# Altium schematic symbol library Resistor_0805.SchLib: 259 symbols (part 1 of 6)
Pins are listed as number, name and electrical type; pins without a type are passive.

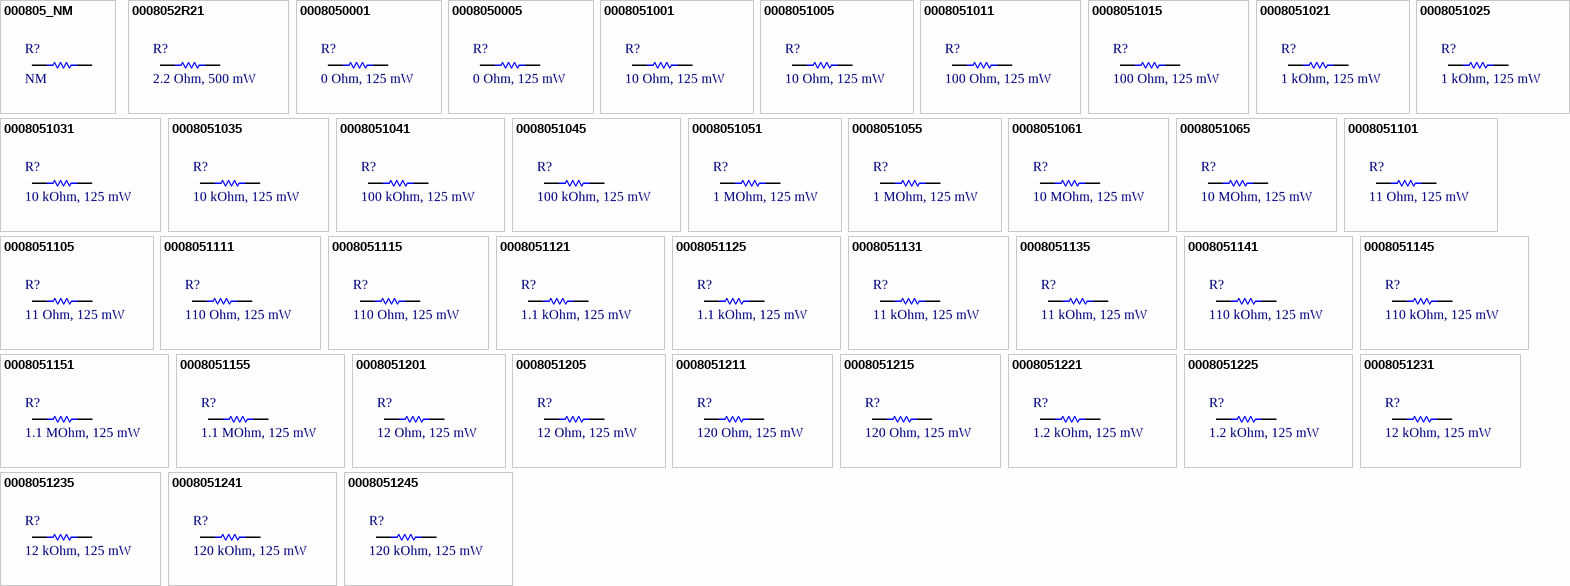
[diagram p0: symbols 000805_NM to 0008051245]

## 000805_NM
designator R?, comment NM
RES, size 0805, NM, N/A; Rated Power: N/A; Resistance: N/A; Supplier 1 URL: N/A; Supplier 2 URL: N/A; Supplier 3 URL: N/A; Value: NM; Packaging: Tape and Reel; Supplier 1: Mouser; Supplier 1 Part Number: N/A; Supplier 2: Digi-Key; Supplier 2 Part Number: N/A; Supplier 3: thegioiic; Supplier 3 Part Number: OEM; Tolerance: N/A; Manufacturer: N/A; Manufacturer Part Number: N/A; ComponentLink1Description: Datasheet; ComponentLink1URL: N/A; Mount: SMD/SMT; Operating Temperature Max: + 85 C; Operating Temperature Min: - 40 C; Package / Case: 0805; LCSC Part #: N/A
footprint RES_0805 (Chip Resistor, 2-Leads, Body 2.05x1.25mm, IPC Medium Density)
pins: 1, 2

## 0008052R21
designator R?, comment 2.2 Ohm, 500 mW
RES, size 0805, 2.2 Ohm, 500mW, 1%; Manufacturer: VISHAY; Manufacturer Part Number: CRCW08052R20FKEAHP; Resistance: 2.2 Ohm; Value: 2.2 Ohm; Tolerance: +/-1%; Rated Power: 500 mW; Supplier 1 URL: https://www.mouser.vn/en/ProductDetail/Vishay/CRCW08052R20FKEAHP?qs=40TFAHZMFvc8altFjF5kRw%3D%3D; Supplier 2 URL: https://www.digikey.com/en/products/detail/vishay-dale/crcw08052r20fkeahp/2226670; Supplier 3 URL: N/A; Packaging: Tape and Reel; Supplier 1: Mouser; Supplier 1 Part Number: 71-CRCW08052R20FKEAH; Supplier 2: Digi-Key; Supplier 2 Part Number: 541-2.20TTR-ND; Supplier 3: thegioiic; Supplier 3 Part Number: N/A; ComponentLink1Description: Datasheet; ComponentLink1URL: https://www.lcsc.com/datasheet/C2078808.pdf?spm=wm.sxq.inf.ggs___wm.fly.bg.4.xh&lcsc_vid=FQMKBABWTgUIBQJQFFEMBgBUFFIPVlNeFQReAQVWFFgxVlNeQlJfUFNSQ1JeUzsOAxUeFF5JWBYZEEoKFBINSQcJGk4NBhADEA4cHktXRlVcSQwSGg0%3D; Mount: SMD/SMT; Operating Temperature Max: + 85 C; Operating Temperature Min: - 40 C; Package / Case: 0805; LCSC Part #: C2078808
footprint RES_0805 (Chip Resistor, 2-Leads, Body 2.05x1.25mm, IPC Medium Density)
simulation model R_Resistor_Default (Model Description)
signal-integrity model Resistor Model
pins: 1, 2

## 0008050001
designator R?, comment 0 Ohm, 125 mW
RES, size 0805, 0 Ohm, 1/8 W, 1%; Manufacturer: YAGEO; Manufacturer Part Number: RC0805FR-070RL; Rated Power: 125 mW; Resistance: 0 Ohm; Value: 0 Ohm; Tolerance: +/-1%; Supplier 1 URL: https://www.mouser.com/ProductDetail/YAGEO/RC0805FR-070RL?qs=fRxXYNj8ftF6kXqh1XbZJQ%3D%3D; Supplier 2 URL: https://www.digikey.com/en/products/detail/yageo/rc0805fr-070rl/2827620; Supplier 3 URL: https://www.thegioiic.com/dien-tro-0-ohm-0805-1-; Packaging: Tape and Reel; Supplier 1: Mouser; Supplier 1 Part Number: 603-RC0805FR-070RL; Supplier 2: Digi-Key; Supplier 2 Part Number: 311-0.0CRTR-ND; Supplier 3: thegioiic; Supplier 3 Part Number: OEM; ComponentLink1Description: Datasheet; ComponentLink1URL: N/A; Mount: SMD/SMT; Operating Temperature Max: + 85 C; Operating Temperature Min: - 40 C; Package / Case: 0805; LCSC Part #: C100045
footprint RES_0805 (Chip Resistor, 2-Leads, Body 2.05x1.25mm, IPC Medium Density)
simulation model R_Resistor_Default (Model Description)
signal-integrity model Resistor Model
pins: 1, 2

## 0008050005
designator R?, comment 0 Ohm, 125 mW
RES, size 0805, 0 Ohm, 1/8 W, 5%; Manufacturer: YAGEO; Manufacturer Part Number: RC0805JR-070RL; Rated Power: 125 mW; Resistance: 0 Ohm; Value: 0 Ohm; Tolerance: +/-5%; Supplier 1 URL: https://www.mouser.com/ProductDetail/YAGEO/RC0805JR-070RL?qs=3ldFlDWnkKyEhdaPjQHEFA%3D%3D; Supplier 2 URL: https://www.digikey.com/en/products/detail/yageo/rc0805jr-070rl/728216; Supplier 3 URL: https://www.thegioiic.com/dien-tro-0-ohm-0805-5-; Packaging: Tape and Reel; Supplier 1: Mouser; Supplier 1 Part Number: 603-RC0805JR-070RL; Supplier 2: Digi-Key; Supplier 2 Part Number: 311-0.0ARTR-ND; Supplier 3: thegioiic; Supplier 3 Part Number: OEM; ComponentLink1Description: Datasheet; ComponentLink1URL: https://www.mouser.com/datasheet/2/447/PYu_AR_51_RoHS_L_7-3003081.pdf; Mount: SMD/SMT; Operating Temperature Max: + 85 C; Operating Temperature Min: - 40 C; Package / Case: 0805; LCSC Part #: N/A
footprint RES_0805 (Chip Resistor, 2-Leads, Body 2.05x1.25mm, IPC Medium Density)
simulation model R_Resistor_Default (Model Description)
signal-integrity model Resistor Model
pins: 1, 2

## 0008051001
designator R?, comment 10 Ohm, 125 mW
RES, size 0805, 10 Ohm, 1/8 W, 1%; Manufacturer: Vishay Dale Thin Film; Manufacturer Part Number: M55342H06B10D0RT5; Rated Power: 125 mW; Resistance: 10 Ohm; Value: 10 Ohm; Tolerance: +/-1%; Supplier 1 URL: https://www.mouser.vn/ProductDetail/Vishay-Dale/CRCW080510R0FKEAHP?qs=sGAEpiMZZMtlubZbdhIBIB2QTI7Ai3Wq221SUXRDybo%3D; Supplier 2 URL: https://www.digikey.com/en/products/detail/vishay-dale-thin-film/M55342H06B10D0RT5/3580812; Supplier 3 URL: https://www.thegioiic.com/dien-tro-10-ohm-0805-1-; Packaging: Tape and Reel; Supplier 1: Mouser; Supplier 1 Part Number: 71-CRCW080510R0FKEAH; Supplier 2: Digi-Key; Supplier 2 Part Number: 764-M55342H06B10D0RT5TR-ND; Supplier 3: thegioiic; Supplier 3 Part Number: OEM; ComponentLink1Description: Datasheet; ComponentLink1URL: https://www.vishay.com/docs/60018/eh.pdf; Mount: SMD/SMT; Operating Temperature Max: + 85 C; Operating Temperature Min: - 40 C; Package / Case: 0805; LCSC Part #: C96347
footprint RES_0805 (Chip Resistor, 2-Leads, Body 2.05x1.25mm, IPC Medium Density)
simulation model R_Resistor_Default (Model Description)
signal-integrity model Resistor Model
pins: 1, 2

## 0008051005
designator R?, comment 10 Ohm, 125 mW
RES, size 0805, 10 Ohm, 1/8 W, 5%; Manufacturer: TE Connectivity Passive Product; Manufacturer Part Number: CRGCQ0805J10R; Rated Power: 125 mW; Resistance: 10 Ohm; Value: 10 Ohm; Tolerance: +/-5%; Supplier 1 URL: https://www.mouser.vn/ProductDetail/Vishay-Dale/CRCW080510R0JNEB?qs=LOX6nxTstiYdzgklIYN6GQ%3D%3D; Supplier 2 URL: https://www.digikey.com/en/products/detail/vishay-dale-thin-film/M55342H06B10D0RT5/3580812; Supplier 3 URL: https://www.thegioiic.com/dien-tro-10-ohm-0805-5-; Packaging: Tape and Reel; Supplier 1: Mouser; Supplier 1 Part Number: 71-CRCW080510R0JNEB; Supplier 2: Digi-Key; Supplier 2 Part Number: A130122TR-ND; Supplier 3: thegioiic; Supplier 3 Part Number: OEM; ComponentLink1Description: Datasheet; ComponentLink1URL: https://www.te.com/usa-en/product-2176342-7.datasheet.pdf; Mount: SMD/SMT; Operating Temperature Max: + 85 C; Operating Temperature Min: - 40 C; Package / Case: 0805; LCSC Part #: N/A
footprint RES_0805 (Chip Resistor, 2-Leads, Body 2.05x1.25mm, IPC Medium Density)
simulation model R_Resistor_Default (Model Description)
signal-integrity model Resistor Model
pins: 1, 2

## 0008051011
designator R?, comment 100 Ohm, 125 mW
RES, size 0805, 100 Ohm, 1/8 W, 1%; Manufacturer: YAGEO; Manufacturer Part Number: AC0805FR-07100RL; Rated Power: 125 mW; Resistance: 100 Ohm; Value: 100 Ohm; Tolerance: +/-1%; Supplier 1 URL: https://www.mouser.com/ProductDetail/YAGEO/AC0805FR-07100RL?qs=yhV1fb9g%2FKZPmqCrZLI1lw%3D%3D; Supplier 2 URL: https://www.digikey.com/en/products/detail/yageo/ac0805fr-07100rl/5896521; Supplier 3 URL: https://www.thegioiic.com/dien-tro-100-ohm-0805-1-; Packaging: Tape and Reel; Supplier 1: Mouser; Supplier 1 Part Number: 603-AC0805FR-07100RL; Supplier 2: Digi-Key; Supplier 2 Part Number: YAG3689TR-ND; Supplier 3: thegioiic; Supplier 3 Part Number: OEM; ComponentLink1Description: Datasheet; ComponentLink1URL: https://www.yageo.com/upload/media/product/productsearch/datasheet/rchip/PYu-AC_51_RoHS_L_11.pdf; Mount: SMD/SMT; Operating Temperature Max: + 85 C; Operating Temperature Min: - 40 C; Package / Case: 0805; LCSC Part #: C138274
footprint RES_0805 (Chip Resistor, 2-Leads, Body 2.05x1.25mm, IPC Medium Density)
simulation model R_Resistor_Default (Model Description)
signal-integrity model Resistor Model
pins: 1, 2

## 0008051015
designator R?, comment 100 Ohm, 125 mW
RES, size 0805, 100 Ohm, 1/8 W, 5%; Manufacturer: YAGEO; Manufacturer Part Number: RC0805JR-07100RL; Rated Power: 125 mW; Resistance: 100 Ohm; Value: 100 Ohm; Tolerance: +/-5%; Supplier 1 URL: https://www.mouser.com/ProductDetail/YAGEO/RC0805JR-07100RL?qs=KyGMWp10UktK72I3hB%252BlJQ%3D%3D; Supplier 2 URL: https://www.digikey.com/en/products/detail/yageo/rc0805jr-07100rl/728238; Supplier 3 URL: https://www.thegioiic.com/dien-tro-100-ohm-0805-5; Packaging: Tape and Reel; Supplier 1: Mouser; Supplier 1 Part Number: 603-RC0805JR-07100RL; Supplier 2: Digi-Key; Supplier 2 Part Number: 311-100ARTR-ND; Supplier 3: thegioiic; Supplier 3 Part Number: OEM; ComponentLink1Description: Datasheet; ComponentLink1URL: https://www.vishay.com/docs/28773/crcwce3.pdf; Mount: SMD/SMT; Operating Temperature Max: + 85 C; Operating Temperature Min: - 40 C; Package / Case: 0805; LCSC Part #: C106949
footprint RES_0805 (Chip Resistor, 2-Leads, Body 2.05x1.25mm, IPC Medium Density)
simulation model R_Resistor_Default (Model Description)
signal-integrity model Resistor Model
pins: 1, 2

## 0008051021
designator R?, comment 1 kOhm, 125 mW
RES, size 0805, 1 kOhm, 1/8 W, 1%; Manufacturer: Vishay Dale; Manufacturer Part Number: M55342K06B1E00RS3; Rated Power: 125 mW; Resistance: 1 kOhm; Value: 1 kOhm; Tolerance: +/-1%; Supplier 1 URL: N/A; Supplier 2 URL: https://www.digikey.com/en/products/detail/vishay-dale/M55342K06B1E00RS3/2941798; Supplier 3 URL: https://www.thegioiic.com/dien-tro-1-kohm-0805-1; Packaging: Tape and Reel; Supplier 1: Mouser; Supplier 1 Part Number: N/A; Supplier 2: Digi-Key; Supplier 2 Part Number: 1135-1001-2-ND; Supplier 3: thegioiic; Supplier 3 Part Number: OEM; ComponentLink1Description: Datasheet; ComponentLink1URL: https://www.vishay.com/docs/31010/rcwpm.pdf; Mount: SMD/SMT; Operating Temperature Max: + 85 C; Operating Temperature Min: - 40 C; Package / Case: 0805; LCSC Part #: N/A
footprint RES_0805 (Chip Resistor, 2-Leads, Body 2.05x1.25mm, IPC Medium Density)
simulation model R_Resistor_Default (Model Description)
signal-integrity model Resistor Model
pins: 1, 2

## 0008051025
designator R?, comment 1 kOhm, 125 mW
RES, size 0805, 1 kOhm, 1/8 W, 5%; Manufacturer: Vishay Dale; Manufacturer Part Number: CRCW08051K00JNEAC; Rated Power: 125 mW; Resistance: 1 kOhm; Value: 1 kOhm; Tolerance: +/-5%; Supplier 1 URL: https://www.mouser.vn/ProductDetail/Vishay-Dale/CRCW08051K00JNEC?qs=OW6ROCK%252BaiZqKFsNe9zjFw%3D%3D; Supplier 2 URL: https://www.digikey.com/en/products/detail/vishay-dale/CRCW08051K00JNEAC/7928584; Supplier 3 URL: https://www.thegioiic.com/dien-tro-1-kohm-0805-5-; Packaging: Tape and Reel; Supplier 1: Mouser; Supplier 1 Part Number: 71-CRCW08051K00JNEC; Supplier 2: Digi-Key; Supplier 2 Part Number: 541-4162-2-ND; Supplier 3: thegioiic; Supplier 3 Part Number: OEM; ComponentLink1Description: Datasheet; ComponentLink1URL: https://www.vishay.com/docs/28773/crcwce3.pdf; Mount: SMD/SMT; Operating Temperature Max: + 85 C; Operating Temperature Min: - 40 C; Package / Case: 0805; LCSC Part #: N/A
footprint RES_0805 (Chip Resistor, 2-Leads, Body 2.05x1.25mm, IPC Medium Density)
simulation model R_Resistor_Default (Model Description)
signal-integrity model Resistor Model
pins: 1, 2

## 0008051031
designator R?, comment 10 kOhm, 125 mW
RES, size 0805, 10 kOhm, 1/8 W, 1%; Rated Power: 125 mW; Resistance: 10 kOhm; Value: 10 kOhm; Tolerance: +/-1%; Supplier 1 URL: N/A; Supplier 2 URL: N/A; Supplier 3 URL: https://www.thegioiic.com/dien-tro-1-kohm-0805-1; Packaging: Tape and Reel; Supplier 1: Mouser; Supplier 1 Part Number: N/A; Supplier 2: Digi-Key; Supplier 2 Part Number: N/A; Supplier 3: thegioiic; Supplier 3 Part Number: OEM; Manufacturer: N/A; Manufacturer Part Number: N/A; ComponentLink1Description: Datasheet; ComponentLink1URL: N/A; Mount: SMD/SMT; Operating Temperature Max: + 85 C; Operating Temperature Min: - 40 C; Package / Case: 0805; LCSC Part #: N/A
footprint RES_0805 (Chip Resistor, 2-Leads, Body 2.05x1.25mm, IPC Medium Density)
simulation model R_Resistor_Default (Model Description)
signal-integrity model Resistor Model
pins: 1, 2

## 0008051035
designator R?, comment 10 kOhm, 125 mW
RES, size 0805, 10 kOhm, 1/8 W, 5%; Manufacturer: YAGEO; Manufacturer Part Number: RC0805JR-0710KL; Rated Power: 125 mW; Resistance: 10 kOhm; Value: 10 kOhm; Tolerance: +/-5%; Supplier 1 URL: https://www.mouser.com/ProductDetail/YAGEO/RC0805JR-0710KL?qs=ZFGQJeMQzF5q%2Fp77vM%2FrVQ%3D%3D; Supplier 2 URL: https://www.digikey.com/en/products/detail/yageo/RC0805JR-0710KL/728241?s=N4IgTCBcDaIEoGEAMAOJBWAUnAtEg7AIxIDSAMiALoC%2BQA; Supplier 3 URL: https://www.thegioiic.com/dien-tro-10-kohm-0805-5-; Packaging: Tape and Reel; Supplier 1: Mouser; Supplier 1 Part Number: 603-RC0805JR-0710KL; Supplier 2: Digi-Key; Supplier 2 Part Number: 311-10KARTR-ND; Supplier 3: thegioiic; Supplier 3 Part Number: OEM; ComponentLink1Description: Datasheet; ComponentLink1URL: https://www.mouser.com/datasheet/2/447/YAGEO_PYu_RC_Group_51_RoHS_L_12-3313492.pdf; Mount: SMD/SMT; Operating Temperature Max: + 85 C; Operating Temperature Min: - 40 C; Package / Case: 0805; LCSC Part #: C844195
footprint RES_0805 (Chip Resistor, 2-Leads, Body 2.05x1.25mm, IPC Medium Density)
simulation model R_Resistor_Default (Model Description)
signal-integrity model Resistor Model
pins: 1, 2

## 0008051041
designator R?, comment 100 kOhm, 125 mW
RES, size 0805, 100 kOhm, 1/8 W, 1%; Manufacturer: YAGEO; Manufacturer Part Number: RC0805FR-07100KL; Rated Power: 125 mW; Tolerance: +/-1%; Resistance: 100 kOhm; Supplier 1 URL: https://www.mouser.vn/ProductDetail/YAGEO/RC0805FR-07100KL?qs=8Y8p%252BasKcI7rEWn6FcVdAA%3D%3D; Supplier 2 URL: https://www.digikey.com/en/products/detail/yageo/rc0805fr-07100kl/727544; Supplier 3 URL: https://www.thegioiic.com/dien-tro-100-kohm-0805-1-; Value: 100 kOhm; Packaging: Tape and Reel; Supplier 1: Mouser; Supplier 1 Part Number: 603-RC0805FR-07100KL; Supplier 2: Digi-Key; Supplier 2 Part Number: 311-100KCRTR-ND; Supplier 3: thegioiic; Supplier 3 Part Number: 100 KOhm 0805 1% (UNI-ROYALOHM); ComponentLink1Description: Datasheet; ComponentLink1URL: https://www.mouser.vn/datasheet/2/447/YAGEO_PYu_RC_Group_51_RoHS_L_12-3313492.pdf; Mount: SMD/SMT; Operating Temperature Max: + 85 C; Operating Temperature Min: - 40 C; Package / Case: 0805; LCSC Part #: C96346
footprint RES_0805 (Chip Resistor, 2-Leads, Body 2.05x1.25mm, IPC Medium Density)
simulation model R_Resistor_Default (Model Description)
signal-integrity model Resistor Model
pins: 1, 2

## 0008051045
designator R?, comment 100 kOhm, 125 mW
RES, size 0805, 100 kOhm, 1/8 W, 5%; Manufacturer: YAGEO; Manufacturer Part Number: RC0805JR-07100KL; Rated Power: 125 mW; Tolerance: +/-5%; Resistance: 100 kOhm; Supplier 1 URL: https://www.mouser.vn/ProductDetail/YAGEO/RC0805JR-07100KL?qs=KyGMWp10Ukv2oRRmJ87Y%252BQ%3D%3D; Supplier 2 URL: https://www.digikey.com/en/products/detail/yageo/rc0805jr-07100kl/728239; Supplier 3 URL: https://www.thegioiic.com/dien-tro-100-kohm-0805-5-; Value: 100 kOhm; Packaging: Tape and Reel; Supplier 1: Mouser; Supplier 1 Part Number: 603-RC0805JR-07100KL; Supplier 2: Digi-Key; Supplier 2 Part Number: 311-100KARTR-ND; Supplier 3: thegioiic; Supplier 3 Part Number: 100 KOhm 0805 5% (UNI-ROYALOHM); ComponentLink1Description: Datasheet; ComponentLink1URL: https://www.mouser.vn/datasheet/2/447/YAGEO_PYu_RC_Group_51_RoHS_L_12-3313492.pdf; Mount: SMD/SMT; Operating Temperature Max: + 85 C; Operating Temperature Min: - 40 C; Package / Case: 0805; LCSC Part #: C100049
footprint RES_0805 (Chip Resistor, 2-Leads, Body 2.05x1.25mm, IPC Medium Density)
simulation model R_Resistor_Default (Model Description)
signal-integrity model Resistor Model
pins: 1, 2

## 0008051051
designator R?, comment 1 MOhm, 125 mW
RES, size 0805, 1 MOhm, 1/8 W, 1%; Manufacturer: Vishay Dale; Manufacturer Part Number: M55342K06B1F00RS3; Rated Power: 125 mW; Resistance: 1 MOhm; Value: 1 MOhm; Tolerance: +/-1%; Supplier 1 URL: N/A; Supplier 2 URL: https://www.digikey.com/en/products/detail/vishay-dale/M55342K06B1F00RS3/2941807?s=N4IgjCBcoMxaBjKAzAhgGwM4FMA0IB7KAbXDBggF18AHAFyhAGU6AnASwDsBzEAX3xgAbPBBJIaLHkIkQMAJwwATPJDUQ9Riw49%2B%2BACwjoYlBhz4ikUgA4A7MrW0GkZmy68BIJQAZrAVlFxSXMZK3AAAgBZAHkACwBbTEcNZxAAVU52OmjkSOxUTABXVmx%2BPj4gA; Supplier 3 URL: https://www.thegioiic.com/dien-tro-1-mohm-0805-1; Packaging: Tape and Reel; Supplier 1: Mouser; Supplier 1 Part Number: N/A; Supplier 2: Digi-Key; Supplier 2 Part Number: 1135-1009-2-ND; Supplier 3: thegioiic; Supplier 3 Part Number: OEM; ComponentLink1Description: Datasheet; ComponentLink1URL: N/A; Mount: SMD/SMT; Operating Temperature Max: + 85 C; Operating Temperature Min: - 40 C; Package / Case: 0805; LCSC Part #: N/A
footprint RES_0805 (Chip Resistor, 2-Leads, Body 2.05x1.25mm, IPC Medium Density)
simulation model R_Resistor_Default (Model Description)
signal-integrity model Resistor Model
pins: 1, 2

## 0008051055
designator R?, comment 1 MOhm, 125 mW
RES, size 0805, 1 MOhm, 1/8 W, 5%; Manufacturer: Vishay Dale; Manufacturer Part Number: CRCW08051M00JNEAC; Rated Power: 125 mW; Resistance: 1 MOhm; Value: 1 MOhm; Tolerance: +/-5%; Supplier 1 URL: https://www.mouser.vn/ProductDetail/Vishay-Dale/CRCW08051M00JNEA?qs=1CkV0QOCgMqcQMPfmcgFvg%3D%3D; Supplier 2 URL: https://www.digikey.com/en/products/detail/vishay-dale/CRCW08051M00JNEAC/7923683; Supplier 3 URL: https://www.thegioiic.com/dien-tro-1-mohm-0805-5; Packaging: Tape and Reel; Supplier 1: Mouser; Supplier 1 Part Number: 71-CRCW0805J-1M-E3; Supplier 2: Digi-Key; Supplier 2 Part Number: 541-CRCW08051M00JNEACTR-ND; Supplier 3: thegioiic; Supplier 3 Part Number: OEM; ComponentLink1Description: Datasheet; ComponentLink1URL: https://www.vishay.com/docs/28773/crcwce3.pdf; Mount: SMD/SMT; Operating Temperature Max: + 85 C; Operating Temperature Min: - 40 C; Package / Case: 0805; LCSC Part #: N/A
footprint RES_0805 (Chip Resistor, 2-Leads, Body 2.05x1.25mm, IPC Medium Density)
simulation model R_Resistor_Default (Model Description)
signal-integrity model Resistor Model
pins: 1, 2

## 0008051061
designator R?, comment 10 MOhm, 125 mW
RES, size 0805, 10 MOhm, 1/8 W, 1%; Manufacturer: Vishay Dale; Manufacturer Part Number: CRCW08051M00FKEAC; Rated Power: 125 mW; Resistance: 10 MOhm; Value: 10 MOhm; Tolerance: +/-1%; Supplier 1 URL: N/A; Supplier 2 URL: https://www.digikey.com/en/products/detail/vishay-dale/CRCW08051M00FKEAC/7928557; Supplier 3 URL: https://www.digikey.com/en/products/detail/vishay-dale/CRCW08051M00FKEAC/7928557; Packaging: Tape and Reel; Supplier 1: Mouser; Supplier 1 Part Number: N/A; Supplier 2: Digi-Key; Supplier 2 Part Number: 541-4135-2-ND; Supplier 3: thegioiic; Supplier 3 Part Number: OEM; ComponentLink1Description: Datasheet; ComponentLink1URL: https://www.vishay.com/docs/28773/crcwce3.pdf; Mount: SMD/SMT; Operating Temperature Max: + 85 C; Operating Temperature Min: - 40 C; Package / Case: 0805; LCSC Part #: N/A
footprint RES_0805 (Chip Resistor, 2-Leads, Body 2.05x1.25mm, IPC Medium Density)
simulation model R_Resistor_Default (Model Description)
signal-integrity model Resistor Model
pins: 1, 2

## 0008051065
designator R?, comment 10 MOhm, 125 mW
RES, size 0805, 10 MOhm, 1/8 W, 5%; Manufacturer: Vishay Dale; Manufacturer Part Number: CRCW080510M0JNEA; Rated Power: 125 mW; Resistance: 10 MOhm; Value: 10 MOhm; Tolerance: +/-5%; Supplier 1 URL: https://www.mouser.vn/ProductDetail/Vishay-Draloric/RCV080510M0JNEA?qs=%252BZJHVReOaHr6BtmMLn%2FzAw%3D%3D; Supplier 2 URL: https://www.digikey.com/en/products/detail/vishay-dale/CRCW080510M0JNEA/1175294; Supplier 3 URL: https://www.digikey.com/en/products/detail/vishay-dale/CRCW080510M0JNEA/1175294; Packaging: Tape and Reel; Supplier 1: Mouser; Supplier 1 Part Number: 71-RCV080510M0JNEA; Supplier 2: Digi-Key; Supplier 2 Part Number: 541-10MATR-ND; Supplier 3: thegioiic; Supplier 3 Part Number: OEM; ComponentLink1Description: Datasheet; ComponentLink1URL: https://www.vishay.com/docs/20035/dcrcwe3.pdf; Mount: SMD/SMT; Operating Temperature Max: + 85 C; Operating Temperature Min: - 40 C; Package / Case: 0805; LCSC Part #: N/A
footprint RES_0805 (Chip Resistor, 2-Leads, Body 2.05x1.25mm, IPC Medium Density)
simulation model R_Resistor_Default (Model Description)
signal-integrity model Resistor Model
pins: 1, 2

## 0008051101
designator R?, comment 11 Ohm, 125 mW
RES, size 0805, 11 Ohm, 1/8 W, 1%; Manufacturer: Vishay Dale; Manufacturer Part Number: CRCW080511R0FKTA; Rated Power: 125 mW; Resistance: 11 Ohm; Value: 11 Ohm; Tolerance: +/-1%; Supplier 1 URL: https://www.mouser.vn/ProductDetail/Vishay-Dale/CRCW080511R0FKTA?qs=ZOFh%252BZEbFTDhCA9Hrh30Zw%3D%3D; Supplier 2 URL: https://www.digikey.com/en/products/detail/vishay-dale/CRCW080511R0FKEA/1175413; Supplier 3 URL: N/A; Packaging: Tape and Reel; Supplier 1: Mouser; Supplier 1 Part Number: 71-CRCW0805-11; Supplier 2: Digi-Key; Supplier 2 Part Number: 541-11.0CTR-ND; Supplier 3: thegioiic; Supplier 3 Part Number: OEM; ComponentLink1Description: Datasheet; ComponentLink1URL: https://www.vishay.com/docs/20035/dcrcwe3.pdf; Mount: SMD/SMT; Operating Temperature Max: + 85 C; Operating Temperature Min: - 40 C; Package / Case: 0805; LCSC Part #: N/A
footprint RES_0805 (Chip Resistor, 2-Leads, Body 2.05x1.25mm, IPC Medium Density)
simulation model R_Resistor_Default (Model Description)
signal-integrity model Resistor Model
pins: 1, 2

## 0008051105
designator R?, comment 11 Ohm, 125 mW
RES, size 0805, 11 Ohm, 1/8 W, 5%; Manufacturer: Vishay Dale; Manufacturer Part Number: CRCW080511R0JNEAC; Rated Power: 125 mW; Resistance: 11 Ohm; Value: 11 Ohm; Tolerance: +/-5%; Supplier 1 URL: https://www.mouser.vn/ProductDetail/Vishay-Dale/CRCW080511R0JNEA?qs=RG5hTW80OZI1ijzqZ4Fwzg%3D%3D; Supplier 2 URL: https://www.digikey.com/en/products/detail/vishay-dale/CRCW080511R0JNEAC/7923816; Supplier 3 URL: https://www.thegioiic.com/dien-tro-11-ohm-0805-5-; Packaging: Tape and Reel; Supplier 1: Mouser; Supplier 1 Part Number: 71-CRCW080511R0JNEA; Supplier 2: Digi-Key; Supplier 2 Part Number: CRCW080511R0JNEAC-ND; Supplier 3: thegioiic; Supplier 3 Part Number: OEM; ComponentLink1Description: Datasheet; ComponentLink1URL: https://www.vishay.com/docs/28773/crcwce3.pdf; Mount: SMD/SMT; Operating Temperature Max: + 85 C; Operating Temperature Min: - 40 C; Package / Case: 0805; LCSC Part #: N/A
footprint RES_0805 (Chip Resistor, 2-Leads, Body 2.05x1.25mm, IPC Medium Density)
simulation model R_Resistor_Default (Model Description)
signal-integrity model Resistor Model
pins: 1, 2

## 0008051111
designator R?, comment 110 Ohm, 125 mW
RES, size 0805, 110 Ohm, 1/8 W, 1%; Manufacturer: Vishay Dale; Manufacturer Part Number: CRCW0805110RFKEA; Rated Power: 125 mW; Resistance: 110 Ohm; Value: 110 Ohm; Tolerance: +/-1%; Supplier 1 URL: https://www.mouser.vn/ProductDetail/Vishay-Dale/CRCW0805110RFKEAC?qs=E3Y5ESvWgWMNpf%252BYjZabPQ%3D%3D; Supplier 2 URL: https://www.digikey.com/en/products/detail/vishay-dale/CRCW0805110RFKEA/1175527; Supplier 3 URL: N/A; Packaging: Tape and Reel; Supplier 1: Mouser; Supplier 1 Part Number: 71-CRCW0805110RFKEAC; Supplier 2: Digi-Key; Supplier 2 Part Number: 541-110CTR-ND; Supplier 3: thegioiic; Supplier 3 Part Number: OEM; ComponentLink1Description: Datasheet; ComponentLink1URL: https://www.vishay.com/docs/20035/dcrcwe3.pdf; Mount: SMD/SMT; Operating Temperature Max: + 85 C; Operating Temperature Min: - 40 C; Package / Case: 0805; LCSC Part #: N/A
footprint RES_0805 (Chip Resistor, 2-Leads, Body 2.05x1.25mm, IPC Medium Density)
simulation model R_Resistor_Default (Model Description)
signal-integrity model Resistor Model
pins: 1, 2

## 0008051115
designator R?, comment 110 Ohm, 125 mW
RES, size 0805, 110 Ohm, 1/8 W, 5%; Manufacturer: Vishay Dale; Manufacturer Part Number: CRCW0805110RFKEA; Rated Power: 125 mW; Resistance: 110 Ohm; Value: 110 Ohm; Tolerance: +/-5%; Supplier 1 URL: https://www.mouser.vn/ProductDetail/Vishay-Dale/CRCW0805110RJNEA?qs=RG5hTW80OZJqHt0GVT%2FlyA%3D%3D; Supplier 2 URL: https://www.digikey.com/en/products/detail/vishay-dale/CRCW0805110RJNEA/1175175; Supplier 3 URL: https://www.thegioiic.com/dien-tro-110-kohm-0805-5; Packaging: Tape and Reel; Supplier 1: Mouser; Supplier 1 Part Number: 71-CRCW0805110RJNEA; Supplier 2: Digi-Key; Supplier 2 Part Number: 541-110ATR-ND; Supplier 3: thegioiic; Supplier 3 Part Number: OEM; ComponentLink1Description: Datasheet; ComponentLink1URL: https://www.vishay.com/docs/20035/dcrcwe3.pdf; Mount: SMD/SMT; Operating Temperature Max: + 85 C; Operating Temperature Min: - 40 C; Package / Case: 0805; LCSC Part #: N/A
footprint RES_0805 (Chip Resistor, 2-Leads, Body 2.05x1.25mm, IPC Medium Density)
simulation model R_Resistor_Default (Model Description)
signal-integrity model Resistor Model
pins: 1, 2

## 0008051121
designator R?, comment 1.1 kOhm, 125 mW
RES, size 0805, 1.1 kOhm, 1/8 W, 1%; Manufacturer: Vishay Dale; Manufacturer Part Number: CRCW08051K10FKEAC; Rated Power: 125 mW; Tolerance: +/-1%; Resistance: 1.1 kOhm; Supplier 1 URL: https://www.mouser.vn/ProductDetail/Vishay-Dale/CRCW08051K10FKTA?qs=kcr0bk%252BxakCLwlR%2FUomifg%3D%3D; Supplier 2 URL: https://www.digikey.com/en/products/detail/vishay-dale/CRCW08051K10FKEAC/7922296; Supplier 3 URL: N/A; Value: 1.1 kOhm; Packaging: Tape and Reel; Supplier 1: Mouser; Supplier 1 Part Number: 71-CRCW0805-1.1K; Supplier 2: Digi-Key; Supplier 2 Part Number: 541-CRCW08051K10FKEACTR-ND; Supplier 3: thegioiic; Supplier 3 Part Number: OEM; ComponentLink1Description: Datasheet; ComponentLink1URL: https://www.vishay.com/docs/28773/crcwce3.pdf; Mount: SMD/SMT; Operating Temperature Max: + 85 C; Operating Temperature Min: - 40 C; Package / Case: 0805; LCSC Part #: N/A
footprint RES_0805 (Chip Resistor, 2-Leads, Body 2.05x1.25mm, IPC Medium Density)
simulation model R_Resistor_Default (Model Description)
signal-integrity model Resistor Model
pins: 1, 2

## 0008051125
designator R?, comment 1.1 kOhm, 125 mW
RES, size 0805, 1.1 kOhm, 1/8 W, 5%; Manufacturer: Vishay Dale; Manufacturer Part Number: CRCW08051K10JNEA; Rated Power: 125 mW; Tolerance: +/-5%; Resistance: 1.1 kOhm; Supplier 1 URL: https://www.mouser.vn/ProductDetail/Vishay-Dale/CRCW08051K10JNEA?qs=DZvKvnD5UYUcTcO5Q3S%252BBw%3D%3D; Supplier 2 URL: https://www.digikey.com/en/products/detail/vishay-dale/CRCW08051K10JNEA/1175199; Supplier 3 URL: https://www.thegioiic.com/dien-tro-1-1-kohm-0805-5; Value: 1.1 kOhm; Packaging: Tape and Reel; Supplier 1: Mouser; Supplier 1 Part Number: 71-CRCW08051K10JNEA; Supplier 2: Digi-Key; Supplier 2 Part Number: 541-1.1KATR-ND; Supplier 3: thegioiic; Supplier 3 Part Number: OEM; ComponentLink1Description: Datasheet; ComponentLink1URL: https://www.vishay.com/docs/28773/crcwce3.pdf; Mount: SMD/SMT; Operating Temperature Max: + 85 C; Operating Temperature Min: - 40 C; Package / Case: 0805; LCSC Part #: N/A
footprint RES_0805 (Chip Resistor, 2-Leads, Body 2.05x1.25mm, IPC Medium Density)
simulation model R_Resistor_Default (Model Description)
signal-integrity model Resistor Model
pins: 1, 2

## 0008051131
designator R?, comment 11 kOhm, 125 mW
RES, size 0805, 11 kOhm, 1/8 W, 1%; Manufacturer: Vishay Dale; Manufacturer Part Number: CRCW080511K0FKEA; Rated Power: 125 mW; Resistance: 11 kOhm; Value: 11 kOhm; Tolerance: +/-1%; Supplier 1 URL: https://www.mouser.vn/ProductDetail/Vishay-Dale/CRCW080511K0FKEA?qs=RG5hTW80OZLEp%2FQ5LVKZyw%3D%3D; Supplier 2 URL: https://www.digikey.com/en/products/detail/vishay-dale/CRCW080511K0FKEA/1175755; Supplier 3 URL: N/A; Packaging: Tape and Reel; Supplier 1: Mouser; Supplier 1 Part Number: 71-CRCW0805-11K-E3; Supplier 2: Digi-Key; Supplier 2 Part Number: 541-11.0KCTR-ND; Supplier 3: thegioiic; Supplier 3 Part Number: OEM; ComponentLink1Description: Datasheet; ComponentLink1URL: N/A; Mount: SMD/SMT; Operating Temperature Max: + 85 C; Operating Temperature Min: - 40 C; Package / Case: 0805; LCSC Part #: N/A
footprint RES_0805 (Chip Resistor, 2-Leads, Body 2.05x1.25mm, IPC Medium Density)
simulation model R_Resistor_Default (Model Description)
signal-integrity model Resistor Model
pins: 1, 2

## 0008051135
designator R?, comment 11 kOhm, 125 mW
RES, size 0805, 11 kOhm, 1/8 W, 5%; Manufacturer: Vishay Dale; Manufacturer Part Number: CRCW080511K0JNEA; Rated Power: 125 mW; Resistance: 11 kOhm; Value: 11 kOhm; Tolerance: +/-5%; Supplier 1 URL: https://www.mouser.vn/ProductDetail/Vishay-Dale/CRCW080511K0JNEA?qs=RG5hTW80OZLjmZsjWPwJOg%3D%3D; Supplier 2 URL: https://www.digikey.com/en/products/detail/vishay-dale/CRCW080511K0JNEA/1175223; Supplier 3 URL: https://www.thegioiic.com/dien-tro-11-kohm-0805-5; Packaging: Tape and Reel; Supplier 1: Mouser; Supplier 1 Part Number: 71-CRCW0805J-11K-E3; Supplier 2: Digi-Key; Supplier 2 Part Number: 541-11KATR-ND; Supplier 3: thegioiic; Supplier 3 Part Number: OEM; ComponentLink1Description: Datasheet; ComponentLink1URL: https://www.vishay.com/docs/20035/dcrcwe3.pdf; Mount: SMD/SMT; Operating Temperature Max: + 85 C; Operating Temperature Min: - 40 C; Package / Case: 0805; LCSC Part #: N/A
footprint RES_0805 (Chip Resistor, 2-Leads, Body 2.05x1.25mm, IPC Medium Density)
simulation model R_Resistor_Default (Model Description)
signal-integrity model Resistor Model
pins: 1, 2

## 0008051141
designator R?, comment 110 kOhm, 125 mW
RES, size 0805, 110 kOhm, 1/8 W, 1%; Manufacturer: Vishay Dale; Manufacturer Part Number: CRCW0805110KFKEAC; Rated Power: 125 mW; Tolerance: +/-1%; Resistance: 110 kOhm; Supplier 1 URL: https://www.mouser.vn/ProductDetail/Vishay-Dale/CRCW0805110KFKTA?qs=lAAKfumqcshWZsupBauqGw%3D%3D; Supplier 2 URL: https://www.digikey.com/en/products/detail/vishay-dale/CRCW0805110KFKEAC/7922420; Supplier 3 URL: https://www.thegioiic.com/dien-tro-110-kohm-0805-1-; Value: 110 kOhm; Packaging: Tape and Reel; Supplier 1: Mouser; Supplier 1 Part Number: 71-CRCW0805-110K; Supplier 2: Digi-Key; Supplier 2 Part Number: 541-CRCW0805110KFKEACTR-ND; Supplier 3: thegioiic; Supplier 3 Part Number: OEM; ComponentLink1Description: Datasheet; ComponentLink1URL: https://www.vishay.com/docs/28773/crcwce3.pdf; Mount: SMD/SMT; Operating Temperature Max: + 85 C; Operating Temperature Min: - 40 C; Package / Case: 0805; LCSC Part #: N/A
footprint RES_0805 (Chip Resistor, 2-Leads, Body 2.05x1.25mm, IPC Medium Density)
simulation model R_Resistor_Default (Model Description)
signal-integrity model Resistor Model
pins: 1, 2

## 0008051145
designator R?, comment 110 kOhm, 125 mW
RES, size 0805, 110 kOhm, 1/8 W, 5%; Manufacturer: Vishay Dale; Manufacturer Part Number: CRCW0805110KJNEAC; Rated Power: 125 mW; Tolerance: +/-5%; Resistance: 110 kOhm; Supplier 1 URL: https://www.mouser.vn/ProductDetail/Vishay-Dale/CRCW0805110KJNEA?qs=LOX6nxTstiYWgn0ISge4KA%3D%3D; Supplier 2 URL: https://www.digikey.com/en/products/detail/vishay-dale/CRCW0805110KJNEAC/7923811; Supplier 3 URL: https://www.thegioiic.com/dien-tro-110-kohm-0805-5; Value: 110 kOhm; Packaging: Tape and Reel; Supplier 1: Mouser; Supplier 1 Part Number: 71-CRCW0805110KJNEA; Supplier 2: Digi-Key; Supplier 2 Part Number: CRCW0805110KJNEAC-ND; Supplier 3: thegioiic; Supplier 3 Part Number: OEM; ComponentLink1Description: Datasheet; ComponentLink1URL: https://www.vishay.com/docs/28773/crcwce3.pdf; Mount: SMD/SMT; Operating Temperature Max: + 85 C; Operating Temperature Min: - 40 C; Package / Case: 0805; LCSC Part #: N/A
footprint RES_0805 (Chip Resistor, 2-Leads, Body 2.05x1.25mm, IPC Medium Density)
simulation model R_Resistor_Default (Model Description)
signal-integrity model Resistor Model
pins: 1, 2

## 0008051151
designator R?, comment 1.1 MOhm, 125 mW
RES, size 0805, 1.1 MOhm, 1/8 W, 1%; Manufacturer: Vishay Dale; Manufacturer Part Number: CRCW08051M10FKEA; Rated Power: 125 mW; Tolerance: +/-1%; Resistance: 1.1 MOhm; Supplier 1 URL: https://www.mouser.vn/ProductDetail/Vishay-Dale/CRCW08051M10FKEA?qs=1CkV0QOCgMonU8HVfJOxww%3D%3D; Supplier 2 URL: https://www.digikey.com/en/products/detail/vishay-dale/CRCW08051M10FKEA/1176020; Supplier 3 URL: N/A; Value: 1.1 MOhm; Packaging: Tape and Reel; Supplier 1: Mouser; Supplier 1 Part Number: 71-CRCW08051M10FKEA; Supplier 2: Digi-Key; Supplier 2 Part Number: 541-1.10MCTR-ND; Supplier 3: thegioiic; Supplier 3 Part Number: OEM; ComponentLink1Description: Datasheet; ComponentLink1URL: https://www.vishay.com/docs/20035/dcrcwe3.pdf; Mount: SMD/SMT; Operating Temperature Max: + 85 C; Operating Temperature Min: - 40 C; Package / Case: 0805; LCSC Part #: N/A
footprint RES_0805 (Chip Resistor, 2-Leads, Body 2.05x1.25mm, IPC Medium Density)
simulation model R_Resistor_Default (Model Description)
signal-integrity model Resistor Model
pins: 1, 2

## 0008051155
designator R?, comment 1.1 MOhm, 125 mW
RES, size 0805, 1.1 MOhm, 1/8 W, 5%; Manufacturer: Vishay Dale; Manufacturer Part Number: CRCW08051M10JNEAC; Rated Power: 125 mW; Tolerance: +/-5%; Resistance: 1.1 MOhm; Supplier 1 URL: https://www.mouser.vn/ProductDetail/Vishay-Dale/CRCW08051M10JNTA?qs=5w%2FwobBlTbKF7Ocr2yYivA%3D%3D; Supplier 2 URL: https://www.digikey.com/en/products/detail/vishay-dale/CRCW08051M10JNEAC/7923848; Supplier 3 URL: https://www.thegioiic.com/dien-tro-1-1-mohm-0805-5; Value: 1.1 MOhm; Packaging: Tape and Reel; Supplier 1: Mouser; Supplier 1 Part Number: 71-CRCW0805J-1.1M; Supplier 2: Digi-Key; Supplier 2 Part Number: CRCW08051M10JNEAC-ND; Supplier 3: thegioiic; Supplier 3 Part Number: OEM; ComponentLink1Description: Datasheet; ComponentLink1URL: https://www.vishay.com/docs/28773/crcwce3.pdf; Mount: SMD/SMT; Operating Temperature Max: + 85 C; Operating Temperature Min: - 40 C; Package / Case: 0805; LCSC Part #: N/A
footprint RES_0805 (Chip Resistor, 2-Leads, Body 2.05x1.25mm, IPC Medium Density)
simulation model R_Resistor_Default (Model Description)
signal-integrity model Resistor Model
pins: 1, 2

## 0008051201
designator R?, comment 12 Ohm, 125 mW
RES, size 0805, 12 Ohm, 1/8 W, 1%; Manufacturer: Vishay Dale; Manufacturer Part Number: CRCW080512R0FKEA; Rated Power: 125 mW; Resistance: 12 Ohm; Value: 12 Ohm; Tolerance: +/-1%; Supplier 1 URL: https://www.mouser.vn/ProductDetail/Vishay-Dale/CRCW080512R0FKEA?qs=0y7Riw94L4im3ZmXAo%252BFfQ%3D%3D; Supplier 2 URL: https://www.digikey.com/en/products/detail/vishay-dale/CRCW080512R0FKEA/1175417; Supplier 3 URL: https://www.thegioiic.com/dien-tro-12-ohm-0805-1-; Packaging: Tape and Reel; Supplier 1: Mouser; Supplier 1 Part Number: 71-CRCW080512R0FKEA; Supplier 2: Digi-Key; Supplier 2 Part Number: 541-12.0CTR-ND; Supplier 3: thegioiic; Supplier 3 Part Number: OEM; ComponentLink1Description: Datasheet; ComponentLink1URL: N/A; Mount: SMD/SMT; Operating Temperature Max: + 85 C; Operating Temperature Min: - 40 C; Package / Case: 0805; LCSC Part #: N/A
footprint RES_0805 (Chip Resistor, 2-Leads, Body 2.05x1.25mm, IPC Medium Density)
simulation model R_Resistor_Default (Model Description)
signal-integrity model Resistor Model
pins: 1, 2

## 0008051205
designator R?, comment 12 Ohm, 125 mW
RES, size 0805, 12 Ohm, 1/8 W, 5%; Manufacturer: Vishay Dale; Manufacturer Part Number: CRCW080512R0JNEA; Rated Power: 125 mW; Resistance: 12 Ohm; Value: 12 Ohm; Tolerance: +/-5%; Supplier 1 URL: https://www.mouser.vn/ProductDetail/Vishay-Dale/CRCW080512R0JNEA?qs=0y7Riw94L4hpzrfVlTNTMg%3D%3D; Supplier 2 URL: https://www.digikey.com/en/products/detail/vishay-dale/CRCW080512R0JNEA/1175152; Supplier 3 URL: https://www.thegioiic.com/dien-tro-1-1-mohm-0805-5; Packaging: Tape and Reel; Supplier 1: Mouser; Supplier 1 Part Number: 71-CRCW080512R0JNEA; Supplier 2: Digi-Key; Supplier 2 Part Number: 541-12ATR-ND; Supplier 3: thegioiic; Supplier 3 Part Number: OEM; ComponentLink1Description: Datasheet; ComponentLink1URL: https://www.vishay.com/docs/20035/dcrcwe3.pdf; Mount: SMD/SMT; Operating Temperature Max: + 85 C; Operating Temperature Min: - 40 C; Package / Case: 0805; LCSC Part #: N/A
footprint RES_0805 (Chip Resistor, 2-Leads, Body 2.05x1.25mm, IPC Medium Density)
simulation model R_Resistor_Default (Model Description)
signal-integrity model Resistor Model
pins: 1, 2

## 0008051211
designator R?, comment 120 Ohm, 125 mW
RES, size 0805, 120 Ohm, 1/8 W, 1%; Manufacturer: Vishay Dale; Manufacturer Part Number: CRCW0805120RFKEAC; Rated Power: 125 mW; Resistance: 120 Ohm; Value: 120 Ohm; Tolerance: +/-1%; Supplier 1 URL: https://www.mouser.vn/ProductDetail/Vishay-Dale/CRCW0805120RFKEAC?qs=E3Y5ESvWgWNkSFxCW%252BJprQ%3D%3D; Supplier 2 URL: https://www.digikey.com/en/products/detail/vishay-dale/CRCW0805120RFKEAC/7922316; Supplier 3 URL: N/A; Packaging: Tape and Reel; Supplier 1: Mouser; Supplier 1 Part Number: 71-CRCW0805120RFKEAC; Supplier 2: Digi-Key; Supplier 2 Part Number: 541-CRCW0805120RFKEACTR-ND; Supplier 3: thegioiic; Supplier 3 Part Number: OEM; ComponentLink1Description: Datasheet; ComponentLink1URL: https://www.vishay.com/docs/28773/crcwce3.pdf; Mount: SMD/SMT; Operating Temperature Max: + 85 C; Operating Temperature Min: - 40 C; Package / Case: 0805; LCSC Part #: N/A
footprint RES_0805 (Chip Resistor, 2-Leads, Body 2.05x1.25mm, IPC Medium Density)
simulation model R_Resistor_Default (Model Description)
signal-integrity model Resistor Model
pins: 1, 2

## 0008051215
designator R?, comment 120 Ohm, 125 mW
RES, size 0805, 120 Ohm, 1/8 W, 5%; Manufacturer: Vishay Dale; Manufacturer Part Number: CRCW0805120RJNEA; Rated Power: 125 mW; Resistance: 120 Ohm; Value: 120 Ohm; Tolerance: +/-5%; Supplier 1 URL: https://www.mouser.vn/ProductDetail/Vishay-Dale/CRCW0805120RJNEA?qs=RG5hTW80OZL%252BSuUGN6l0YA%3D%3D; Supplier 2 URL: https://www.digikey.com/en/products/detail/vishay-dale/CRCW0805120RJNEA/1175176; Supplier 3 URL: https://www.thegioiic.com/dien-tro-120-ohm-0805-5-; Packaging: Tape and Reel; Supplier 1: Mouser; Supplier 1 Part Number: 71-CRCW0805120RJNEA; Supplier 2: Digi-Key; Supplier 2 Part Number: 541-120ATR-ND; Supplier 3: thegioiic; Supplier 3 Part Number: OEM; ComponentLink1Description: Datasheet; ComponentLink1URL: https://www.vishay.com/docs/20035/dcrcwe3.pdf; Mount: SMD/SMT; Operating Temperature Max: + 85 C; Operating Temperature Min: - 40 C; Package / Case: 0805; LCSC Part #: N/A
footprint RES_0805 (Chip Resistor, 2-Leads, Body 2.05x1.25mm, IPC Medium Density)
simulation model R_Resistor_Default (Model Description)
signal-integrity model Resistor Model
pins: 1, 2

## 0008051221
designator R?, comment 1.2 kOhm, 125 mW
RES, size 0805, 1.2 kOhm, 1/8 W, 1%; Manufacturer: Vishay Dale; Manufacturer Part Number: CRCW08051K20FKEAC; Rated Power: 125 mW; Tolerance: +/-1%; Resistance: 1.2 kOhm; Supplier 1 URL: https://www.mouser.vn/ProductDetail/Vishay-Dale/CRCW08051K20FKTA?qs=xLmuQgtoMPPFT9OsB3td2Q%3D%3D; Supplier 2 URL: https://www.digikey.com/en/products/detail/vishay-dale/CRCW08051K20FKEAC/7922327; Supplier 3 URL: https://www.thegioiic.com/dien-tro-1-2-kohm-0805-1-; Value: 1.2 kOhm; Packaging: Tape and Reel; Supplier 1: Mouser; Supplier 1 Part Number: 71-CRCW0805-1.2K; Supplier 2: Digi-Key; Supplier 2 Part Number: 541-CRCW08051K20FKEACTR-ND; Supplier 3: thegioiic; Supplier 3 Part Number: OEM; ComponentLink1Description: Datasheet; ComponentLink1URL: https://www.vishay.com/docs/28773/crcwce3.pdf; Mount: SMD/SMT; Operating Temperature Max: + 85 C; Operating Temperature Min: - 40 C; Package / Case: 0805; LCSC Part #: N/A
footprint RES_0805 (Chip Resistor, 2-Leads, Body 2.05x1.25mm, IPC Medium Density)
simulation model R_Resistor_Default (Model Description)
signal-integrity model Resistor Model
pins: 1, 2

## 0008051225
designator R?, comment 1.2 kOhm, 125 mW
RES, size 0805, 1.2 kOhm, 1/8 W, 5%; Manufacturer: Vishay Dale; Manufacturer Part Number: CRCW08051K20JNEA; Rated Power: 125 mW; Tolerance: +/-5%; Resistance: 1.2 kOhm; Supplier 1 URL: https://www.mouser.vn/ProductDetail/Vishay-Dale/CRCW08051K20JNTA?qs=ihJ2iVknB9v1dN2NZA89OA%3D%3D; Supplier 2 URL: https://www.digikey.com/en/products/detail/vishay-dale/CRCW08051K20JNEA/1175200; Supplier 3 URL: https://www.thegioiic.com/dien-tro-1-2-kohm-0805-5; Value: 1.2 kOhm; Packaging: Tape and Reel; Supplier 1: Mouser; Supplier 1 Part Number: 71-CRCW0805J-1.2K; Supplier 2: Digi-Key; Supplier 2 Part Number: 541-1.2KATR-ND; Supplier 3: thegioiic; Supplier 3 Part Number: OEM; ComponentLink1Description: Datasheet; ComponentLink1URL: https://www.vishay.com/docs/20035/dcrcwe3.pdf; Mount: SMD/SMT; Operating Temperature Max: + 85 C; Operating Temperature Min: - 40 C; Package / Case: 0805; LCSC Part #: N/A
footprint RES_0805 (Chip Resistor, 2-Leads, Body 2.05x1.25mm, IPC Medium Density)
simulation model R_Resistor_Default (Model Description)
signal-integrity model Resistor Model
pins: 1, 2

## 0008051231
designator R?, comment 12 kOhm, 125 mW
RES, size 0805, 12 kOhm, 1/8 W, 1%; Manufacturer: Vishay Dale; Manufacturer Part Number: CRCW080512K0FKEAC; Rated Power: 125 mW; Resistance: 12 kOhm; Value: 12 kOhm; Tolerance: +/-1%; Supplier 1 URL: https://www.mouser.vn/ProductDetail/Vishay-Dale/CRCW080512K0FKEA?qs=0y7Riw94L4gQIm4gt5oa2A%3D%3D; Supplier 2 URL: https://www.digikey.com/en/products/detail/vishay-dale/CRCW080512K0FKEAC/7922348; Supplier 3 URL: https://www.thegioiic.com/dien-tro-12-kohm-0805-1; Packaging: Tape and Reel; Supplier 1: Mouser; Supplier 1 Part Number: 71-CRCW080512K0FKEA; Supplier 2: Digi-Key; Supplier 2 Part Number: 541-CRCW080512K0FKEACTR-ND; Supplier 3: thegioiic; Supplier 3 Part Number: OEM; ComponentLink1Description: Datasheet; ComponentLink1URL: https://www.vishay.com/docs/28773/crcwce3.pdf; Mount: SMD/SMT; Operating Temperature Max: + 85 C; Operating Temperature Min: - 40 C; Package / Case: 0805; LCSC Part #: N/A
footprint RES_0805 (Chip Resistor, 2-Leads, Body 2.05x1.25mm, IPC Medium Density)
simulation model R_Resistor_Default (Model Description)
signal-integrity model Resistor Model
pins: 1, 2

## 0008051235
designator R?, comment 12 kOhm, 125 mW
RES, size 0805, 12 kOhm, 1/8 W, 5%; Manufacturer: Vishay Dale; Manufacturer Part Number: CRCW080512K0FKEAC; Rated Power: 125 mW; Resistance: 12 kOhm; Value: 12 kOhm; Tolerance: +/-5%; Supplier 1 URL: https://www.mouser.vn/ProductDetail/Vishay-Dale/CRCW080512K0JNEA?qs=0y7Riw94L4j20XDG43nIlg%3D%3D; Supplier 2 URL: https://www.digikey.com/en/products/detail/vishay-dale/CRCW080512K0JNEA/1175224; Supplier 3 URL: https://www.vishay.com/docs/20035/dcrcwe3.pdf; Packaging: Tape and Reel; Supplier 1: Mouser; Supplier 1 Part Number: 71-CRCW080512K0JNEA; Supplier 2: Digi-Key; Supplier 2 Part Number: 541-12KATR-ND; Supplier 3: thegioiic; Supplier 3 Part Number: OEM; ComponentLink1Description: Datasheet; ComponentLink1URL: https://www.vishay.com/docs/20035/dcrcwe3.pdf; Mount: SMD/SMT; Operating Temperature Max: + 85 C; Operating Temperature Min: - 40 C; Package / Case: 0805; LCSC Part #: N/A
footprint RES_0805 (Chip Resistor, 2-Leads, Body 2.05x1.25mm, IPC Medium Density)
simulation model R_Resistor_Default (Model Description)
signal-integrity model Resistor Model
pins: 1, 2

## 0008051241
designator R?, comment 120 kOhm, 125 mW
RES, size 0805, 120 kOhm, 1/8 W, 1%; Manufacturer: Vishay Dale; Manufacturer Part Number: CRCW0805120KFKEB; Rated Power: 125 mW; Tolerance: +/-1%; Resistance: 120 kOhm; Supplier 1 URL: https://www.mouser.vn/ProductDetail/Vishay-Dale/CRCW0805120KFKEAC?qs=E3Y5ESvWgWPz1L64z3fNYQ%3D%3D; Supplier 2 URL: https://www.digikey.com/en/products/detail/vishay-dale/CRCW0805120KFKEB/5073706; Supplier 3 URL: N/A; Value: 120 kOhm; Packaging: Tape and Reel; Supplier 1: Mouser; Supplier 1 Part Number: 71-CRCW0805120KFKEAC; Supplier 2: Digi-Key; Supplier 2 Part Number: 541-CRCW0805120KFKEBTR-ND; Supplier 3: thegioiic; Supplier 3 Part Number: OEM; ComponentLink1Description: Datasheet; ComponentLink1URL: https://www.vishay.com/docs/20035/dcrcwe3.pdf; Mount: SMD/SMT; Operating Temperature Max: + 85 C; Operating Temperature Min: - 40 C; Package / Case: 0805; LCSC Part #: N/A
footprint RES_0805 (Chip Resistor, 2-Leads, Body 2.05x1.25mm, IPC Medium Density)
simulation model R_Resistor_Default (Model Description)
signal-integrity model Resistor Model
pins: 1, 2

## 0008051245
designator R?, comment 120 kOhm, 125 mW
RES, size 0805, 120 kOhm, 1/8 W, 5%; Manufacturer: Vishay Dale; Manufacturer Part Number: CRCW0805120KJNEA; Rated Power: 125 mW; Tolerance: +/-5%; Resistance: 120 kOhm; Supplier 1 URL: https://www.mouser.vn/ProductDetail/Vishay-Dale/CRCW0805120KJNEA?qs=RG5hTW80OZISYDThER7IDg%3D%3D; Supplier 2 URL: https://www.digikey.com/en/products/detail/vishay-dale/CRCW0805120KJNEA/1175248; Supplier 3 URL: https://www.thegioiic.com/dien-tro-120-kohm-0805-5; Value: 120 kOhm; Packaging: Tape and Reel; Supplier 1: Mouser; Supplier 1 Part Number: 71-CRCW0805120KJNEA; Supplier 2: Digi-Key; Supplier 2 Part Number: 541-120KATR-ND; Supplier 3: thegioiic; Supplier 3 Part Number: OEM; ComponentLink1Description: Datasheet; ComponentLink1URL: https://www.vishay.com/docs/20035/dcrcwe3.pdf; Mount: SMD/SMT; Operating Temperature Max: + 85 C; Operating Temperature Min: - 40 C; Package / Case: 0805; LCSC Part #: N/A
footprint RES_0805 (Chip Resistor, 2-Leads, Body 2.05x1.25mm, IPC Medium Density)
simulation model R_Resistor_Default (Model Description)
signal-integrity model Resistor Model
pins: 1, 2

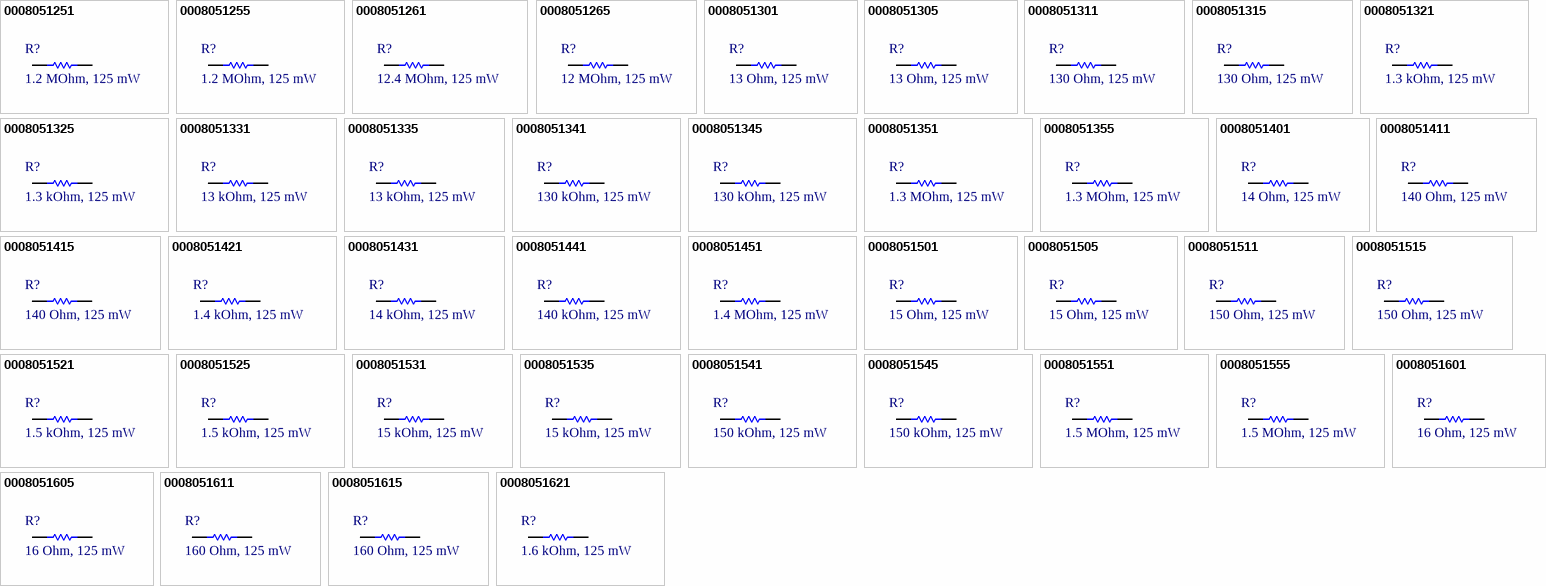
[diagram p1: symbols 0008051251 to 0008051621]

## 0008051251
designator R?, comment 1.2 MOhm, 125 mW
RES, size 0805, 1.2 MOhm, 1/8 W, 1%; Manufacturer: Vishay Dale; Manufacturer Part Number: CRCW08051M20FKEA; Rated Power: 125 mW; Tolerance: +/-1%; Resistance: 1.2 MOhm; Supplier 1 URL: https://www.mouser.vn/ProductDetail/Vishay-Dale/CRCW08051M20FKEA?qs=uQdQW2oKfUVC5dKjGtshLg%3D%3D; Supplier 2 URL: https://www.digikey.com/en/products/detail/vishay-dale/CRCW08051M20FKEA/1176024; Supplier 3 URL: N/A; Value: 1.2 MOhm; Packaging: Tape and Reel; Supplier 1: Mouser; Supplier 1 Part Number: 71-CRCW08051M20FKEA; Supplier 2: Digi-Key; Supplier 2 Part Number: 541-1.20MCTR-ND; Supplier 3: thegioiic; Supplier 3 Part Number: OEM; ComponentLink1Description: Datasheet; ComponentLink1URL: https://www.vishay.com/docs/20035/dcrcwe3.pdf; Mount: SMD/SMT; Operating Temperature Max: + 85 C; Operating Temperature Min: - 40 C; Package / Case: 0805; LCSC Part #: N/A
footprint RES_0805 (Chip Resistor, 2-Leads, Body 2.05x1.25mm, IPC Medium Density)
simulation model R_Resistor_Default (Model Description)
signal-integrity model Resistor Model
pins: 1, 2

## 0008051255
designator R?, comment 1.2 MOhm, 125 mW
RES, size 0805, 1.2 MOhm, 1/8 W, 5%; Manufacturer: Vishay Dale; Manufacturer Part Number: CRCW08051M20JNEA; Rated Power: 125 mW; Tolerance: +/-5%; Resistance: 1.2 MOhm; Supplier 1 URL: https://www.mouser.vn/ProductDetail/Vishay-Dale/CRCW08051M20JNEA?qs=1CkV0QOCgMrKOwOc4yedvw%3D%3D; Supplier 2 URL: https://www.digikey.com/en/products/detail/vishay-dale/CRCW08051M20JNEA/1175272; Supplier 3 URL: https://www.thegioiic.com/dien-tro-1-2-mohm-0805-5; Value: 1.2 MOhm; Packaging: Tape and Reel; Supplier 1: Mouser; Supplier 1 Part Number: 71-CRCW08051M20JNEA; Supplier 2: Digi-Key; Supplier 2 Part Number: 541-1.2MATR-ND; Supplier 3: thegioiic; Supplier 3 Part Number: OEM; ComponentLink1Description: Datasheet; ComponentLink1URL: https://www.vishay.com/docs/20035/dcrcwe3.pdf; Mount: SMD/SMT; Operating Temperature Max: + 85 C; Operating Temperature Min: - 40 C; Package / Case: 0805; LCSC Part #: N/A
footprint RES_0805 (Chip Resistor, 2-Leads, Body 2.05x1.25mm, IPC Medium Density)
simulation model R_Resistor_Default (Model Description)
signal-integrity model Resistor Model
pins: 1, 2

## 0008051261
designator R?, comment 12.4 MOhm, 125 mW
RES, size 0805, 12.4 MOhm, 1/8 W, 1%; Rated Power: 125 mW; Tolerance: +/-1%; Resistance: 12.4 MOhm; Supplier 1 URL: N/A; Supplier 2 URL: https://www.digikey.com/en/products/detail/venkel/CR0805-8W-1245FT/12332325?s=N4IgjCBcoExaBjKAzAhgGwM4FMA0IB7KAbXAAYAOAdgE4QBdfABwBcoQBlFgJwEsA7AOYgAvvgDM8EEkhoseQiXBhxERiFbsufIaPxgYNCNGkoMOfEUilxNcTAoNmbSJx4DhYkDEoBWKTJyForW4DAAdAAsAAQAsgDyABYAtphOGi4gAKr8vCzxyLHYqJgArtzYeiAAtMaIZvKWSr6REPgwAGy0IPi%2BHQwig0A; Supplier 3 URL: N/A; Value: 12.4 MOhm; Packaging: Tape and Reel; Supplier 1: Mouser; Supplier 1 Part Number: N/A; Supplier 2: Digi-Key; Supplier 2 Part Number: 2679-CR0805-8W-1245FTTR-ND; Supplier 3: thegioiic; Supplier 3 Part Number: OEM; Manufacturer: N/A; Manufacturer Part Number: N/A; ComponentLink1Description: Datasheet; ComponentLink1URL: N/A; Mount: SMD/SMT; Operating Temperature Max: + 85 C; Operating Temperature Min: - 40 C; Package / Case: 0805; LCSC Part #: N/A
footprint RES_0805 (Chip Resistor, 2-Leads, Body 2.05x1.25mm, IPC Medium Density)
simulation model R_Resistor_Default (Model Description)
signal-integrity model Resistor Model
pins: 1, 2

## 0008051265
designator R?, comment 12 MOhm, 125 mW
RES, size 0805, 12 MOhm, 1/8 W, 5%; Rated Power: 125 mW; Resistance: 12 MOhm; Value: 12 MOhm; Tolerance: +/-5%; Supplier 1 URL: N/A; Supplier 2 URL: https://www.digikey.com/en/products/detail/vishay-dale/CRCW080512M0JPEAHR/5073763?s=N4IgjCBcoExaBjKAzAhgGwM4FMA0IB7KAbXAAYAOAdgE4QBdfABwBcoQBlFgJwEsA7AOYgAvvgDM8EEkhoseQiRAwArGUmMQrdlz5DR%2BMDBoRo0lBhz4ikUuJriYFBszaROPAcLHLKKqTJyVoq24DAABACyAPIAFgC2mC5abiAAqvy8LNHIkdiomACu3NgGIAC0pogW8tZKKgAsEPQirUA; Supplier 3 URL: N/A; Packaging: Tape and Reel; Supplier 1: Mouser; Supplier 1 Part Number: N/A; Supplier 2: Digi-Key; Supplier 2 Part Number: CRCW080512M0JPEAHR-ND; Supplier 3: thegioiic; Supplier 3 Part Number: OEM; Manufacturer: N/A; Manufacturer Part Number: N/A; ComponentLink1Description: Datasheet; ComponentLink1URL: N/A; Mount: SMD/SMT; Operating Temperature Max: + 85 C; Operating Temperature Min: - 40 C; Package / Case: 0805; LCSC Part #: N/A
footprint RES_0805 (Chip Resistor, 2-Leads, Body 2.05x1.25mm, IPC Medium Density)
simulation model R_Resistor_Default (Model Description)
signal-integrity model Resistor Model
pins: 1, 2